# EAGLE library part ID-12LA (library Embedded > RFID Reader)
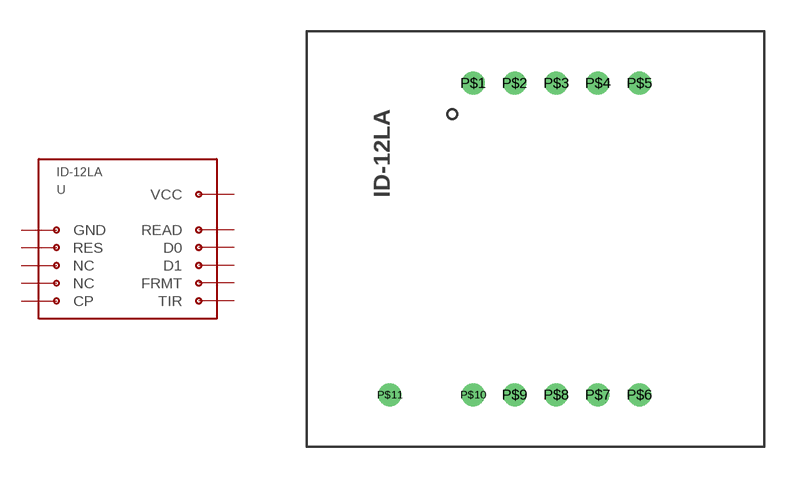
[diagram p0: symbol with the pads of ID-2/12/20(LA); footprint ID-2/12/20(LA)]

Designator prefix U

## ID-12LA  [ID-2/12/20(LA)]
P$1  GND
P$2  RES
P$3  NC
P$4  NC
P$5  CP
P$6  TIR
P$7  FRMT
P$8  D1
P$9  D0
P$10  READ
P$11  VCC

## Footprint ID-2/12/20(LA) (pad centres in mm)
drill 0.6: P$1 -4,7.5; P$2 -2,7.5; P$3 0,7.5; P$4 2,7.5; P$5 4,7.5; P$6 4,-7.5; P$7 2,-7.5; P$8 0,-7.5; P$9 -2,-7.5; P$10 -4,-7.5; P$11 -8,-7.5